# Altium schematic symbol library LM324.SchLib: 1 symbol
Pins are listed as number, name and electrical type; pins without a type are passive.

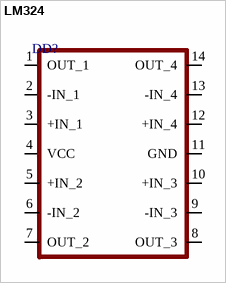
[diagram p0: symbol LM324]

## LM324
designator DD?
footprint SOIC14
pins: 1 OUT_1, 2 -IN_1, 3 +IN_1, 4 VCC, 5 +IN_2, 6 -IN_2, 7 OUT_2, 8 OUT_3, 9 -IN_3, 10 +IN_3, 11 GND, 12 +IN_4, 13 -IN_4, 14 OUT_4